# Altium footprint library 14P_HEADER-SPE-87831-1420_molex.PcbLib: 1 footprints
Each footprint in its own frame and in the unit in brackets; x right, y up, seen from the top. Pads: shape width x height; smd on the part's side, far side on the other; paste and mask are expansions set on the pad; w line width, h text height; cw(c..) or ccw(c..) is an arc to the next point about the centre after c.
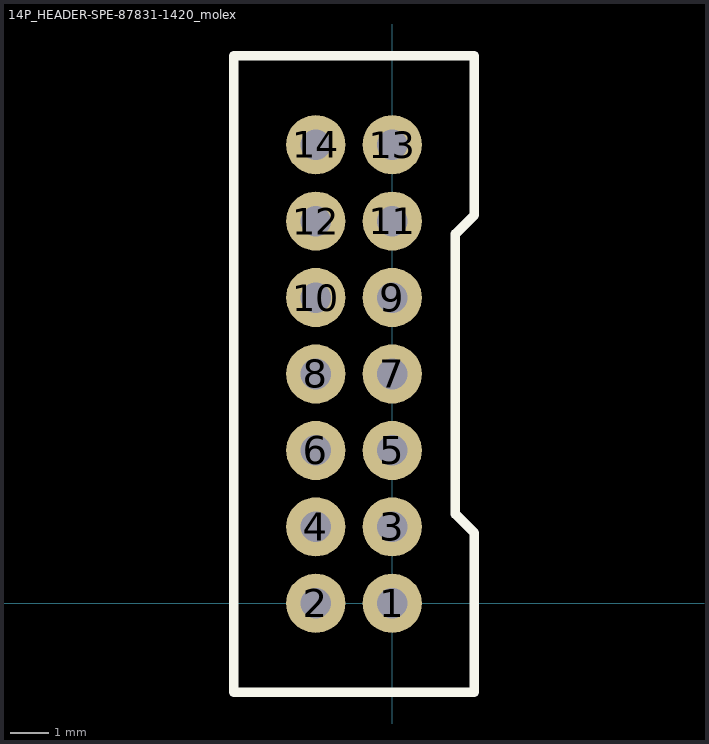
[diagram p0: the footprint, top view; thin cyan lines are the x and y axes]

## 14P_HEADER-SPE-87831-1420_molex [mm]
pads (14):
  round 1.55 hole 0.8: 1(0,0) 2(-2,0) 3(0,2) 4(-2,2) 5(0,4) 6(-2,4) 7(0,6) 8(-2,6) 9(0,8) 10(-2,8) 11(0,10) 12(-2,10) 13(0,12) 14(-2,12)
Top Overlay:
  lines w0.254: 1.651,2.337 2.15,1.838 2.15,-2.325 -4.15,-2.325 -4.15,14.325 2.15,14.325 2.15,10.162 ; 1.651,2.337 1.651,9.663 ; 1.651,2.337 1.651,9.663 ; 1.651,9.663 2.15,10.162 ; 1.651,9.663 2.15,10.162
3D body: height 6.38, standoff -2.52, extent -4.293,-2.229 2.007,14.421